# Altium footprint library HardWare.PcbLib: 173 footprints (part 2 of 11)
Each footprint in its own frame and in the unit in brackets; x right, y up, seen from the top. Pads: shape width x height; smd on the part's side, far side on the other; paste and mask are expansions set on the pad; w line width, h text height; cw(c..) or ccw(c..) is an arc to the next point about the centre after c.
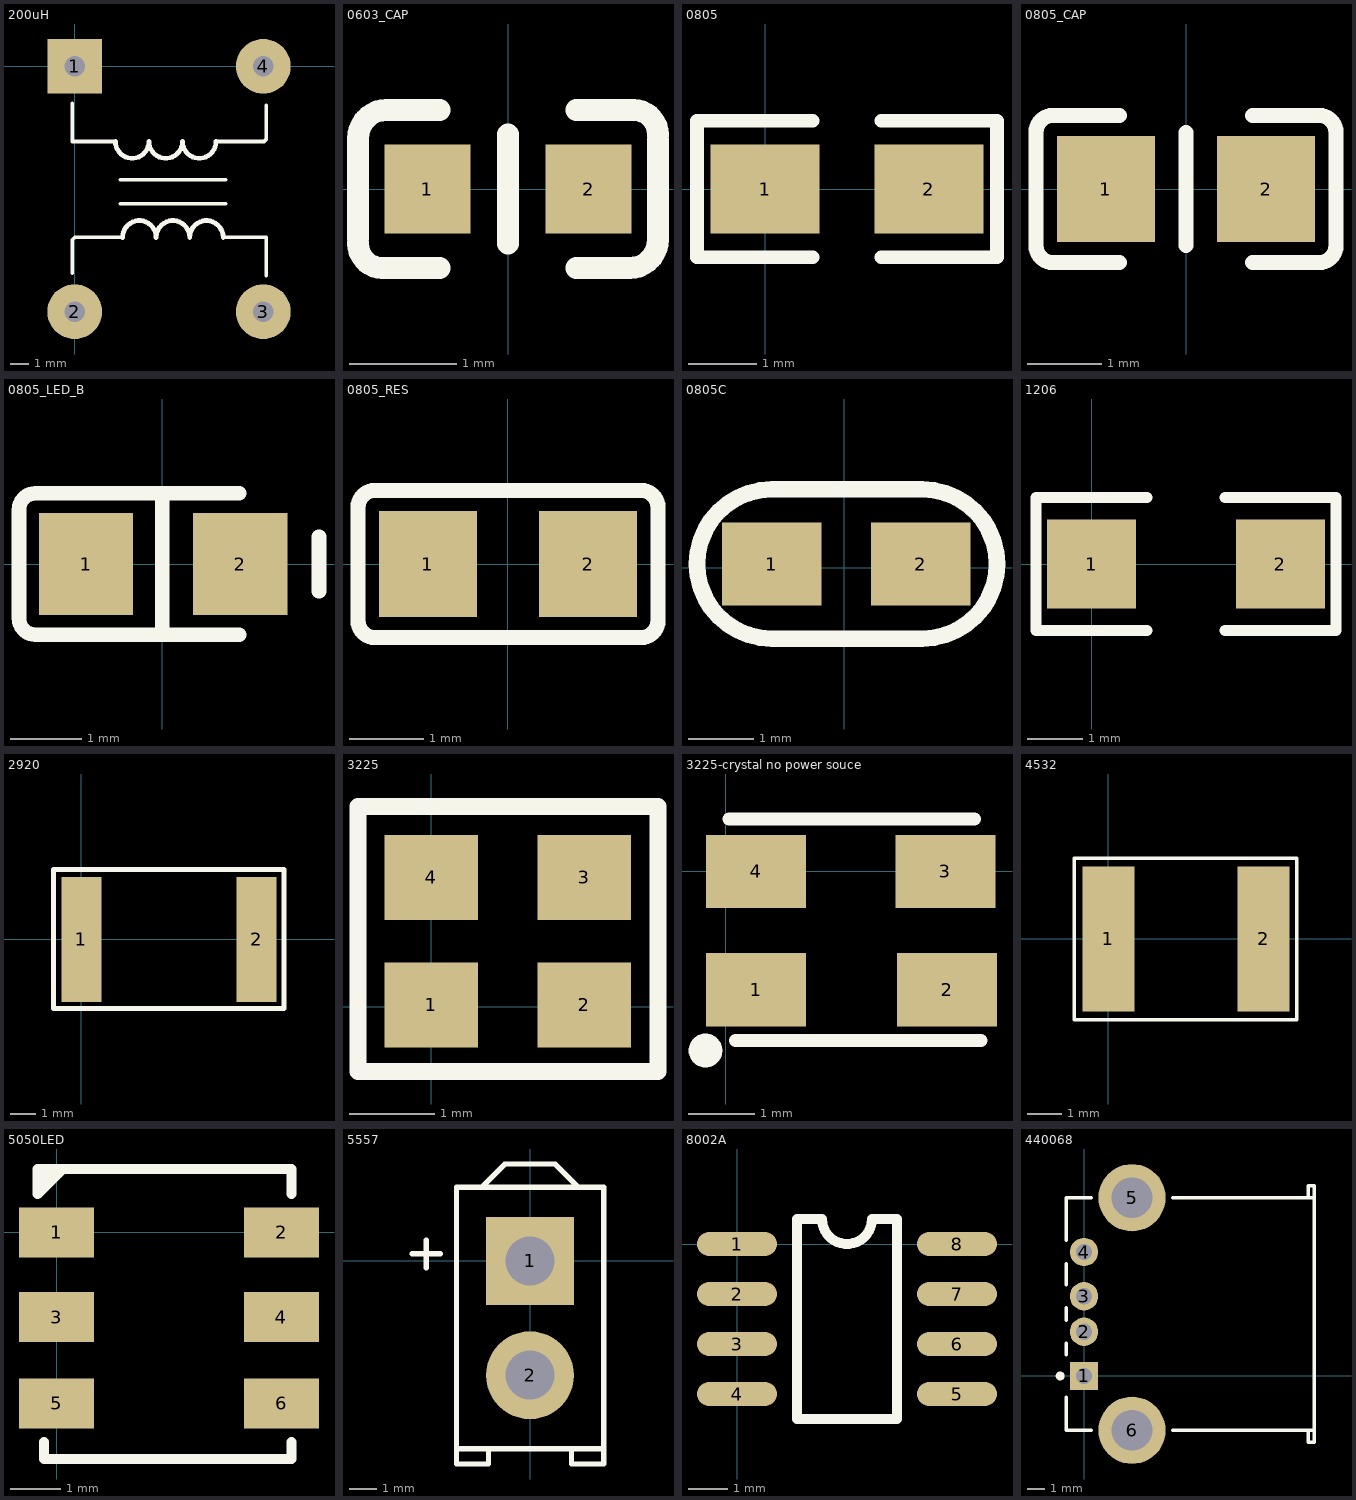
[diagram p1: the footprints below, top view; thin cyan lines are the x and y axes]

## 200uH [mm] "立式共模电感"
pads (4):
  rect 2.9x2.9 hole 1.1: 1(0,0)
  round 2.9 hole 1.1: 2(0,-13) 3(10,-13) 4(10,0)
Top Overlay:
  lines w0.2: -0.127,-10.968 -0.127,-9.19 0,-9.063 2.54,-9.063 ; -0.127,-1.951 -0.127,-3.983 2.159,-3.983 ; 2.413,-7.285 8.001,-7.285 ; 2.413,-6.015 8.001,-6.015 ; 7.493,-3.983 10.033,-3.983 10.16,-3.856 10.16,-2.078 ; 7.874,-9.063 10.16,-9.063 10.16,-11.095
  lines w0.254: 2.159,-3.983 ccw(c3.048,-3.983) 3.937,-3.983 ccw(c4.826,-3.983) 5.715,-3.983 ccw(c6.604,-3.983) 7.493,-3.983 ; 2.54,-9.063 cw(c3.429,-9.063) 4.318,-9.063 cw(c5.207,-9.063) 6.096,-9.063 cw(c6.985,-9.063) 7.874,-9.063

## 0603_CAP [mm]
pads (2):
  rect 0.8x0.83 smd: 1(-0.75,0) 2(0.75,0)
Top Overlay:
  lines w0.203: -1.397,-0.508 ccw(c-1.168,-0.508) -1.168,-0.737 ; -1.397,-0.457 -1.397,0.471 cw(c-1.131,0.471) -1.131,0.737 -0.635,0.737 ; -1.156,-0.737 -0.635,-0.737 ; 0,-0.508 0,0.508 ; 0.635,-0.737 1.131,-0.737 ccw(c1.131,-0.471) 1.397,-0.471 1.397,0.457 ; 0.635,0.737 1.156,0.737 ; 1.168,0.737 cw(c1.168,0.508) 1.397,0.508
3D body "0805 SMD Capacitor.STEP": height 0.78, standoff 0, extent -1,-0.625 1,0.625

## 0805 [mm]
height 1.75
pads (2):
  rect 1.6x1.3 smd: 1(0,0) 2(2.4,0)
Top Overlay:
  lines w0.2: 0.7,-1 -1,-1 -1,1 0.7,1 ; 1.7,-1 3.4,-1 3.4,1 1.7,1

## 0805_CAP [mil]
pads (2):
  rect 52x56 smd: 1(-42.5,0) 2(42.5,0)
Top Overlay:
  lines w8: -35.25,-39 -70.5,-39 cw(c-70.5,-30) -79.5,-30 -79.5,30 cw(c-70.5,30) -70.5,39 -35.25,39 ; 0,-30 0,30 ; 35.25,-39 70.5,-39 ccw(c70.5,-30) 79.5,-30 79.5,30 ccw(c70.5,30) 70.5,39 35.25,39
3D body "0805 SMD Capacitor.STEP": height 30.79, standoff 0, extent -39.37,-24.6 39.37,24.6

## 0805_LED_B [mil]
height 62.99
pads (2):
  rect 52x56 smd: 1(-42,0) 2(43,0)
Top Overlay:
  lines w8: 0,-39 0,39 ; 42.5,-39 -70,-39 cw(c-70,-30) -79,-30 -79,30 cw(c-70,30) -70,39 42.5,39 ; 86.5,-15 86.5,15
3D body "blue.STEP": height 43.31, standoff 0, extent -39.76,-24.6 39.76,24.61

## 0805_RES [mil]
height 59.06
pads (2):
  rect 52x56 smd: 1(-42.5,0) 2(42.5,0)
Top Overlay:
  lines w8: -79.5,-30 ccw(c-70.5,-30) -70.5,-39 70.5,-39 ccw(c70.5,-30) 79.5,-30 79.5,30 ccw(c70.5,30) 70.5,39 -70.5,39 ccw(c-70.5,30) -79.5,30 -79.5,-30
3D body "User Library-RES_2013-0805.STEP": height 29.92, standoff 0, extent -45.27,-27.56 45.28,25.59

## 0805C [mil]
height 43.31
pads (2):
  rect 60x50 smd: 1(-43.82,2.21) 2(46.18,2.21)
Top Overlay:
  lines w10: 46.18,47.2 -43.82,47.2 ccw(c-43.82,2.21) -43.82,-42.8 47.18,-42.8 ccw(c47.18,2.21) 47.18,47.2

## 1206 [mm]
height 1.75
pads (2):
  rect 1.6x1.6 smd: 1(0,0) 2(3.4,0)
Top Overlay:
  lines w0.2: 1,-1.2 -1,-1.2 -1,1.2 1,1.2 ; 2.4,-1.2 4.4,-1.2 4.4,1.2 2.4,1.2

## 2920 [mm] "fuse 3A"
pads (2):
  rect 1.6x5 smd: 1(0,0) 2(7,0)
Top Overlay:
  lines w0.2: -1.118,-2.769 -1.118,2.794 8.103,2.794 8.103,-2.769 -1.118,-2.769

## 3225 [mil]
pads (4):
  rect 43.3x39.38 smd: 1(0,1) 2(70.87,1) 3(70.87,60.06) 4(0,60.06)
Top Overlay:
  lines w7.87: -33.97,-29.9 105.04,-29.9 105.04,92.89 -33.97,92.89 -33.97,-29.9

## 3225-crystal no power souce [mm]
pads (4):
  rect 1.5x1.1 smd: 1(0.457,-1.778) 2(3.327,-1.778) 3(3.302,0) 4(0.457,0)
Top Overlay:
  circle w0.254: c-0.305,-2.692 r0.127
  lines w0.199: 0.051,0.787 3.734,0.787 ; 0.152,-2.54 3.835,-2.54 ; 2.379,0.787 3.48,0.787
  lines w0.2: 0.051,0.787 2.379,0.787

## 4532 [mm] "防雷管"
pads (2):
  rect 1.5x4.2 smd: 1(0,0) 2(4.5,0)
Top Overlay:
  lines w0.1: -0.991,-2.337 -0.991,2.337 -0.787,2.337 5.461,2.337 5.461,-2.337 -0.991,-2.337

## 5050LED [mm] "红绿蓝 三色灯"
pads (6):
  rect 1.5x1 smd: 1(0,0) 2(4.5,0) 3(0,-1.698) 4(4.5,-1.698) 5(0,-3.42) 6(4.5,-3.42)
Top Overlay:
  rectangle: -0.432,0.991 -0.051,1.245
  lines w0.2: -0.254,-4.191 -0.254,-4.538 4.369,-4.538 4.699,-4.538 4.699,-4.191 ; 4.699,0.762 4.699,1.27 0.127,1.27 ; 0.127,1.27 -0.381,1.27 -0.381,0.762 0.127,1.27

## 5557 [mil]
pads (2):
  rect 127x127 hole 70.87: 1(0,0)
  round 127 hole 70.87: 2(0,-165.35)
Top Overlay:
  lines w7.83: -106.3,-293.7 -60,-293.7 -60,-271.64 ; -70,106.3 -36.3,140 36.3,140 70,106.3 ; 60,-271.64 60,-293.7 106.3,-293.7 106.3,106.3
  lines w7.87: -106.3,-293.7 -106.3,106.3 106.3,106.3 ; -106.3,-271.64 106.3,-271.64
  lines w8: -170,10 -130,10 ; -150,-10 -150,30

## 8002A [mil]
pads (8):
  oval 80x24 smd: 1(0,0) 2(0,-50) 3(0,-100) 4(0,-150) 5(220,-150) 6(220,-100) 7(220,-50) 8(220,0)
Top Overlay:
  lines w10: 60,-175 160,-175 160,25 135,25 cw(c110,25) 85,25 60,25 60,-175

## 440068 [mm] "USB-A母 90度弯脚插座"
height 6.95
pads (6):
  rect 1.6x1.6 hole 0.92: 1(0,0)
  round 1.6 hole 0.92: 2(0,2.5) 3(0,4.5) 4(0,7)
  round 3.8 hole 2.3: 5(2.71,10.07) 6(2.71,-3.07)
Top Overlay:
  circle w0.25: c-1.35,0 r0.125
  lines w0.2: -1.01,-1.2 -1.01,-3.065 0.41,-3.065 ; -1.01,1.2 -1.01,1.84 ; -1.01,3.16 -1.01,3.84 ; -1.01,5.16 -1.01,6.34 ; -1.01,7.66 -1.01,10.065 0.41,10.065 ; 5.01,-3.065 12.99,-3.065 ; 5.01,10.065 12.99,10.065 ; 12.67,-3.065 12.67,-3.75 12.99,-3.75 12.99,-3.065 ; 12.67,10.065 12.67,10.75 12.99,10.75 12.99,10.065 ; 12.99,-3.065 12.99,10.065